# Altium schematic symbol library 815.SchLib: 1 symbol
Pins are listed as number, name and electrical type; pins without a type are passive.

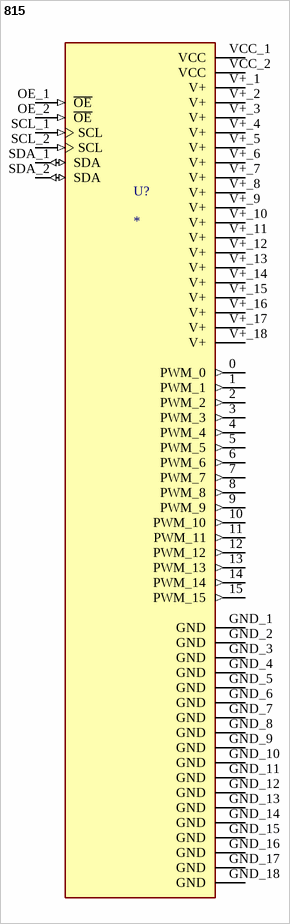
[diagram p0: symbol 815]

## 815
designator U?
Adafruit 16-Channel 12-bit PWM/Servo Driver - I2C interface - PCA9685; MP: 815; SnapEDA_Link: https://www.snapeda.com/parts/815/Adafruit+Industries/view-part/?ref=snap; Package: Non-Standard Adafruit; Value: *; MF: Adafruit; Check_prices: https://www.snapeda.com/parts/815/Adafruit+Industries/view-part/?ref=eda
footprint MODULE_815
pins: 0 PWM_0 (out), 1 PWM_1 (out), 2 PWM_2 (out), 3 PWM_3 (out), 4 PWM_4 (out), 5 PWM_5 (out), 6 PWM_6 (out), 7 PWM_7 (out), 8 PWM_8 (out), 9 PWM_9 (out), 10 PWM_10 (out), 11 PWM_11 (out), 12 PWM_12 (out), 13 PWM_13 (out), 14 PWM_14 (out), 15 PWM_15 (out), GND_1 GND (power), GND_2 GND (power), GND_3 GND (power), GND_4 GND (power), GND_5 GND (power), GND_6 GND (power), GND_7 GND (power), GND_8 GND (power), GND_9 GND (power), GND_10 GND (power), GND_11 GND (power), GND_12 GND (power), GND_13 GND (power), GND_14 GND (power), GND_15 GND (power), GND_16 GND (power), GND_17 GND (power), GND_18 GND (power), OE_1 ~{OE} (in), OE_2 ~{OE} (in), SCL_1 SCL (in), SCL_2 SCL (in), SDA_1 SDA (io), SDA_2 SDA (io), V+_1 V+ (power), V+_2 V+ (power), V+_3 V+ (power), V+_4 V+ (power), V+_5 V+ (power), V+_6 V+ (power), V+_7 V+ (power), V+_8 V+ (power), V+_9 V+ (power), V+_10 V+ (power), V+_11 V+ (power), V+_12 V+ (power), V+_13 V+ (power), V+_14 V+ (power), V+_15 V+ (power), V+_16 V+ (power), V+_17 V+ (power), V+_18 V+ (power), VCC_1 VCC (power), VCC_2 VCC (power)